# Altium footprint library mw.PcbLib: 252 footprints (part 7 of 16)
Each footprint in its own frame and in the unit in brackets; x right, y up, seen from the top. Pads: shape width x height; smd on the part's side, far side on the other; paste and mask are expansions set on the pad; w line width, h text height; cw(c..) or ccw(c..) is an arc to the next point about the centre after c.
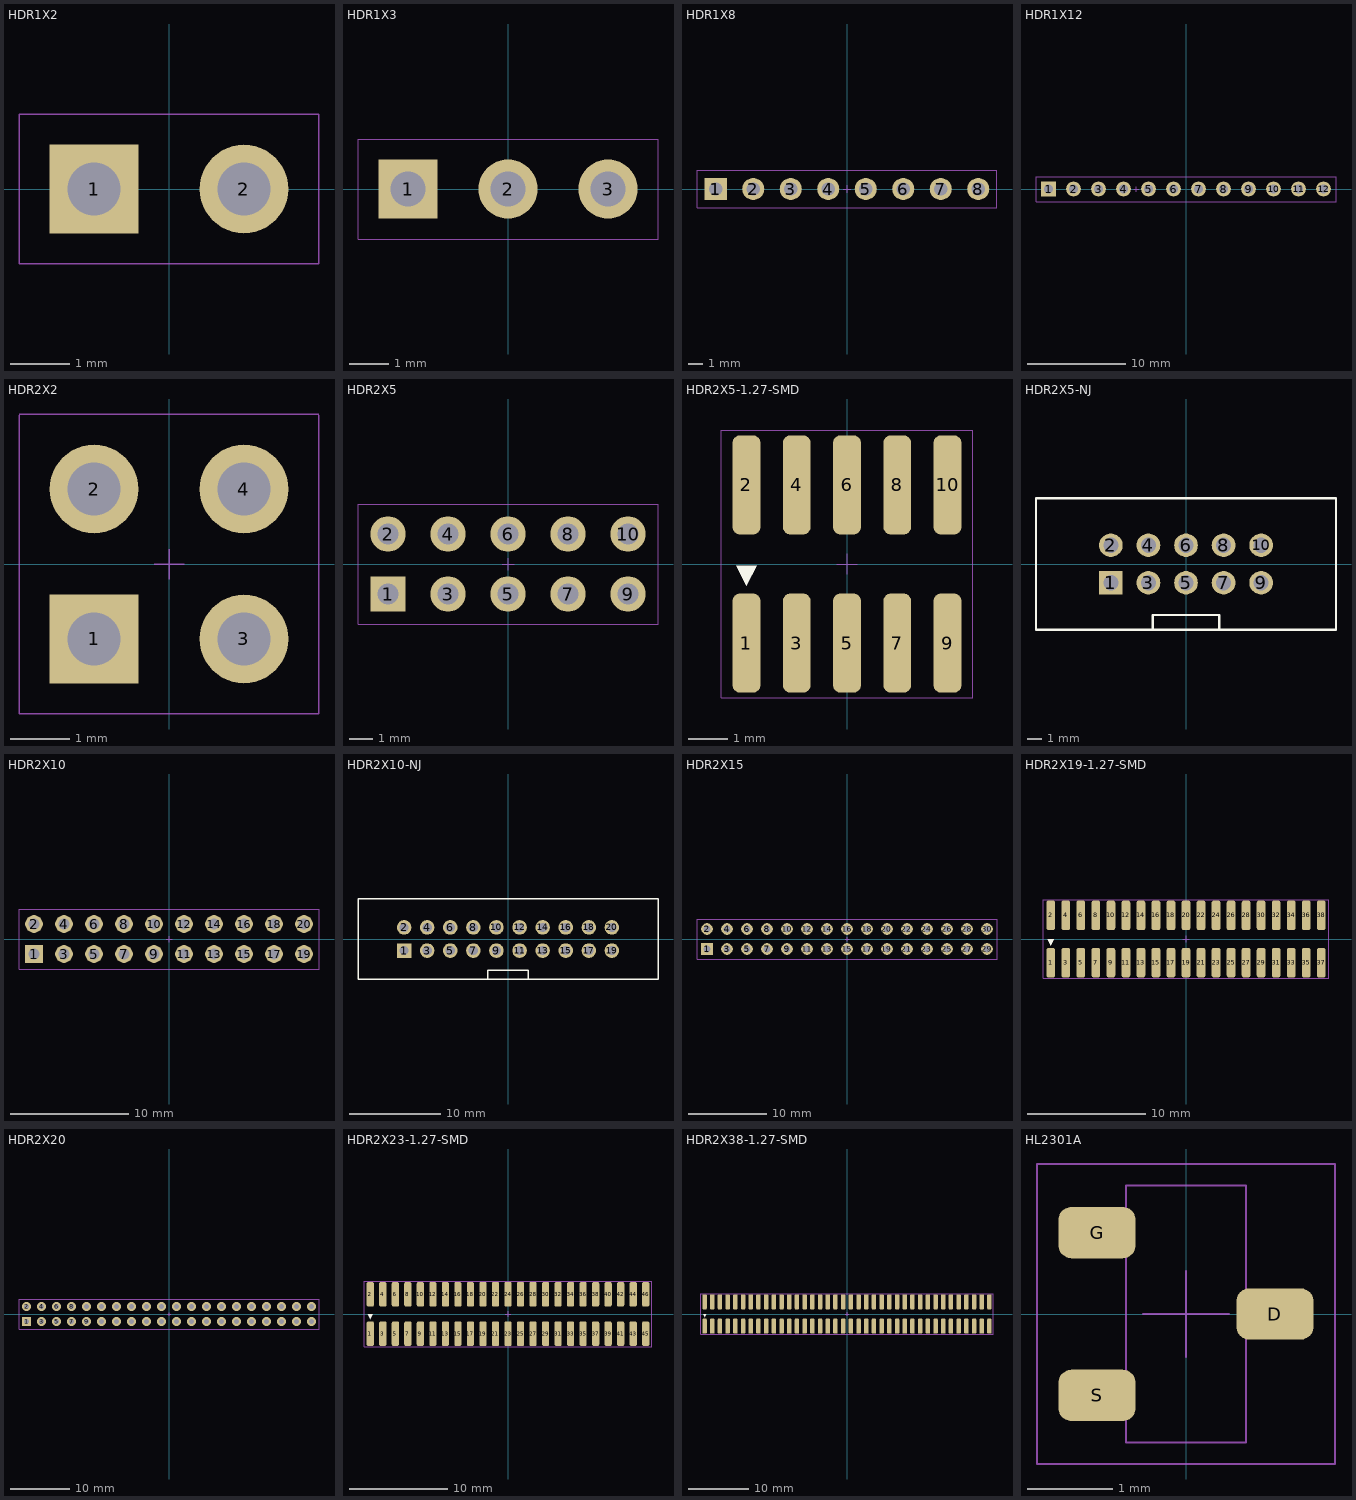
[diagram p6: the footprints below, top view; thin cyan lines are the x and y axes]

## HDR1X2 [mm] "Connector; Header; 5x2 Position"
pads (2):
  rect 1.5x1.5 hole 0.9: 1(-1.27,0)
  round 1.5 hole 0.9: 2(1.27,0)
Top Courtyard:
  lines w0.025: -1.524,0 -1.016,0 ; -1.27,-0.254 -1.27,0.254 ; -2.54,-1.27 -2.54,1.27 2.54,1.27 2.54,-1.27 -2.54,-1.27
3D body "header-2.54-1x2.step": height 9.3, standoff -2.2, extent -2.54,-1.25 2.54,1.25

## HDR1X3 [mm] "Connector; Header; 5x2 Position"
pads (3):
  rect 1.5x1.5 hole 0.9: 1(-2.54,0)
  round 1.5 hole 0.9: 2(0,0) 3(2.54,0)
Top Courtyard:
  lines w0.025: -0.254,0 0.254,0 ; 0,-0.254 0,0.254 ; -3.81,-1.27 3.81,-1.27 3.81,1.27 -3.81,1.27 -3.81,-1.27
3D body "header-2.54-1x3.step": height 9.3, standoff -2.2, extent -3.81,-1.25 3.81,1.25

## HDR1X8 [mm] "Connector; Header; 5x2 Position"
pads (8):
  rect 1.5x1.5 hole 0.9: 1(-8.89,0)
  round 1.5 hole 0.9: 2(-6.35,0) 3(-3.81,0) 4(-1.27,0) 5(1.27,0) 6(3.81,0) 7(6.35,0) 8(8.89,0)
Top Courtyard:
  lines w0.025: -0.254,0 0.254,0 ; 0,-0.254 0,0.254 ; -10.16,-1.27 -10.16,1.27 10.16,1.27 10.16,0.635 10.16,-0.635 10.16,-1.27 -10.16,-1.27
3D body "header-2.54-1x8.step": height 9.3, standoff -2.2, extent -10.16,-1.25 10.16,1.25

## HDR1X12 [mm] "Connector; Header; 5x2 Position"
pads (12):
  rect 1.5x1.5 hole 0.9: 1(-13.97,0)
  round 1.5 hole 0.9: 2(-11.43,0) 3(-8.89,0) 4(-6.35,0) 5(-3.81,0) 6(-1.27,0) 7(1.27,0) 8(3.81,0) 9(6.35,0) 10(8.89,0) 11(11.43,0) 12(13.97,0)
Top Courtyard:
  lines w0.025: -5.334,0 -4.826,0 ; -5.08,-0.254 -5.08,0.254 ; -15.24,-1.27 -15.24,1.27 15.24,1.27 15.24,-1.27 -15.24,-1.27
3D body "header-2.54-1x12.step": height 9.3, standoff -2.2, extent -15.24,-1.25 15.24,1.25

## HDR2X2 [mm] "Connector; Header"
pads (4):
  rect 1.5x1.5 hole 0.9: 1(-1.27,-1.27)
  round 1.5 hole 0.9: 2(-1.27,1.27) 3(1.27,-1.27) 4(1.27,1.27)
Top Courtyard:
  lines w0.025: -2.54,2.52 -2.54,-2.54 2.54,-2.54 2.54,2.52 ; -2.54,2.54 2.54,2.54 ; -0.254,0 0.254,0 ; 0,-0.254 0,0.254
3D body "header-2.54-2x2.step": height 9.3, standoff -2.2, extent -2.54,-2.54 2.54,2.54

## HDR2X5 [mm] "Connector; Header; 5x2 Position"
pads (10):
  rect 1.5x1.5 hole 0.9: 1(-5.08,-1.27)
  round 1.5 hole 0.9: 2(-5.08,1.27) 3(-2.54,-1.27) 4(-2.54,1.27) 5(0,-1.27) 6(0,1.27) 7(2.54,-1.27) 8(2.54,1.27) 9(5.08,-1.27) 10(5.08,1.27)
Top Courtyard:
  lines w0.025: -0.254,0 0.254,0 ; 0,-0.254 0,0.254 ; -6.35,-2.54 6.35,-2.54 6.35,2.54 -6.35,2.54 -6.35,-2.54
3D body "header-2.54-2x5.step": height 9.3, standoff -2.2, extent -6.35,-2.54 6.35,2.54

## HDR2X5-1.27-SMD [mm] "Connector; Header; 5x2 Position"
pads (10):
  rrect50% 0.7x2.5 smd: 1(-2.54,-2) 2(-2.54,2) 3(-1.27,-2) 4(-1.27,2) 5(0,-2) 6(0,2) 7(1.27,-2) 8(1.27,2) 9(2.54,-2) 10(2.54,2)
Top Overlay:
  region: -2.286,-0.042 -2.794,-0.042 -2.54,-0.55
Top Courtyard:
  lines w0.025: -0.254,0 0.254,0 ; 0,-0.254 0,0.254 ; -3.175,-3.375 -3.175,3.375 3.175,3.375 3.175,-3.375 -3.175,-3.375

## HDR2X5-NJ [mm]
pads (10):
  rect 1.6x1.6 hole 1.02: 1(-5.08,-1.27)
  round 1.6 hole 1.02: 2(-5.08,1.27) 3(-2.54,-1.27) 4(-2.54,1.27) 5(0,-1.27) 6(0,1.27) 7(2.54,-1.27) 8(2.54,1.27) 9(5.08,-1.27) 10(5.08,1.27)
Top Overlay:
  lines w0.152: -2.25,-4.45 -2.25,-3.45 2.25,-3.45 2.25,-4.45 ; -10.15,-4.45 10.15,-4.45 10.15,4.45 -10.15,4.45 -10.15,-4.45
3D body "jn-2.54-2x5.STEP": height 9, standoff -1.55, extent -10.15,-4.5 10.15,4.6

## HDR2X10 [mm] "Connector; Header;"
pads (20):
  rect 1.5x1.5 hole 0.9: 1(-11.43,-1.27)
  round 1.5 hole 0.9: 2(-11.43,1.27) 3(-8.89,-1.27) 4(-8.89,1.27) 5(-6.35,-1.27) 6(-6.35,1.27) 7(-3.81,-1.27) 8(-3.81,1.27) 9(-1.27,-1.27) 10(-1.27,1.27) 11(1.27,-1.27) 12(1.27,1.27) 13(3.81,-1.27) 14(3.81,1.27) 15(6.35,-1.27) 16(6.35,1.27) 17(8.89,-1.27) 18(8.89,1.27) 19(11.43,-1.27) 20(11.43,1.27)
Top Courtyard:
  lines w0.025: -0.254,0 0.254,0 ; 0,-0.254 0,0.254 ; -12.7,-2.54 -12.7,2.54 12.7,2.54 12.7,-2.54 -12.7,-2.54
3D body "header-2.54-2x10.step": height 9.3, standoff -2.2, extent -12.7,-2.535 12.7,2.545

## HDR2X10-NJ [mm]
pads (20):
  rect 1.6x1.6 hole 1.02: 1(-11.43,-1.27)
  round 1.6 hole 1.02: 2(-11.43,1.27) 3(-8.89,-1.27) 4(-8.89,1.27) 5(-6.35,-1.27) 6(-6.35,1.27) 7(-3.81,-1.27) 8(-3.81,1.27) 9(-1.27,-1.27) 10(-1.27,1.27) 11(1.27,-1.27) 12(1.27,1.27) 13(3.81,-1.27) 14(3.81,1.27) 15(6.35,-1.27) 16(6.35,1.27) 17(8.89,-1.27) 18(8.89,1.27) 19(11.43,-1.27) 20(11.43,1.27)
Top Overlay:
  lines w0.152: -2.25,-4.45 -2.25,-3.45 2.25,-3.45 2.25,-4.45 ; -16.5,-4.45 16.5,-4.45 16.5,4.45 -16.5,4.45 -16.5,-4.45
3D body "jn-2.54-2x10.STEP": height 9, standoff -1.55, extent -16.5,-4.45 16.5,4.65

## HDR2X15 [mm] "Connector; Header;"
pads (30):
  rect 1.5x1.5 hole 0.9: 1(-17.78,-1.27)
  round 1.5 hole 0.9: 2(-17.78,1.27) 3(-15.24,-1.27) 4(-15.24,1.27) 5(-12.7,-1.27) 6(-12.7,1.27) 7(-10.16,-1.27) 8(-10.16,1.27) 9(-7.62,-1.27) 10(-7.62,1.27) 11(-5.08,-1.27) 12(-5.08,1.27) 13(-2.54,-1.27) 14(-2.54,1.27) 15(0,-1.27) 16(0,1.27) 17(2.54,-1.27) 18(2.54,1.27) 19(5.08,-1.27) 20(5.08,1.27) 21(7.62,-1.27) 22(7.62,1.27) 23(10.16,-1.27) 24(10.16,1.27) 25(12.7,-1.27) 26(12.7,1.27) 27(15.24,-1.27) 28(15.24,1.27) 29(17.78,-1.27) 30(17.78,1.27)
Top Courtyard:
  lines w0.025: -19.05,2.538 19.05,2.54 19.05,-2.54 -19.05,-2.54 ; -0.254,0 0.254,0 ; 0,-0.254 0,0.254 ; -19.05,-2.54 -19.05,2.54 -19.05,-2.54
3D body "header-2.54-2x15.step": height 9.3, standoff -2.2, extent -19.05,-2.54 19.05,2.54

## HDR2X19-1.27-SMD [mm]
pads (38):
  rrect50% 0.74x2.5 smd: 1(-11.43,-2) 2(-11.43,2) 3(-10.16,-2) 4(-10.16,2) 5(-8.89,-2) 6(-8.89,2) 7(-7.62,-2) 8(-7.62,2) 9(-6.35,-2) 10(-6.35,2) 11(-5.08,-2) 12(-5.08,2) 13(-3.81,-2) 14(-3.81,2) 15(-2.54,-2) 16(-2.54,2) 17(-1.27,-2) 18(-1.27,2) 19(0,-2) 20(0,2) 21(1.27,-2) 22(1.27,2) 23(2.54,-2) 24(2.54,2) 25(3.81,-2) 26(3.81,2) 27(5.08,-2) 28(5.08,2) 29(6.35,-2) 30(6.35,2) 31(7.62,-2) 32(7.62,2) 33(8.89,-2) 34(8.89,2) 35(10.16,-2) 36(10.16,2) 37(11.43,-2) 38(11.43,2)
Top Overlay:
  region: -11.176,-0.042 -11.684,-0.042 -11.43,-0.55
Top Courtyard:
  lines w0.025: -0.254,0 0.254,0 ; 0,-0.254 0,0.254 ; -12.065,-3.302 12.065,-3.302 12.065,3.302 -12.065,3.302 -12.065,-3.302
3D body "header-1.27-2x19.STEP": height 3.71, standoff 0, extent -12.065,-2.415 12.065,2.415

## HDR2X20 [mm] "Connector; Header;"
pads (40):
  rect 1.5x1.5 hole 0.9: 1(-24.13,-1.27)
  round 1.5 hole 0.9: 2(-24.13,1.27) 3(-21.59,-1.27) 4(-21.59,1.27) 5(-19.05,-1.27) 6(-19.05,1.27) 7(-16.51,-1.27) 8(-16.51,1.27) 9(-13.97,-1.27) 10(-13.97,1.27) 11(-11.43,-1.27) 12(-11.43,1.27) 13(-8.89,-1.27) 14(-8.89,1.27) 15(-6.35,-1.27) 16(-6.35,1.27) 17(-3.81,-1.27) 18(-3.81,1.27) 19(-1.27,-1.27) 20(-1.27,1.27) 21(1.27,-1.27) 22(1.27,1.27) 23(3.81,-1.27) 24(3.81,1.27) 25(6.35,-1.27) 26(6.35,1.27) 27(8.89,-1.27) 28(8.89,1.27) 29(11.43,-1.27) 30(11.43,1.27) 31(13.97,-1.27) 32(13.97,1.27) 33(16.51,-1.27) 34(16.51,1.27) 35(19.05,-1.27) 36(19.05,1.27) 37(21.59,-1.27) 38(21.59,1.27) 39(24.13,-1.27) 40(24.13,1.27)
Top Courtyard:
  lines w0.025: -0.254,0 0.254,0 ; 0,-0.254 0,0.254 ; -25.4,-2.54 25.4,-2.54 25.4,2.54 -25.4,2.54 -25.4,-2.54
3D body "header-2.54-2x20.step": height 9.3, standoff -2.2, extent -25.4,-2.54 25.4,2.54

## HDR2X23-1.27-SMD [mm]
pads (46):
  rrect50% 0.74x2.5 smd: 1(-13.97,-2) 2(-13.97,2) 3(-12.7,-2) 4(-12.7,2) 5(-11.43,-2) 6(-11.43,2) 7(-10.16,-2) 8(-10.16,2) 9(-8.89,-2) 10(-8.89,2) 11(-7.62,-2) 12(-7.62,2) 13(-6.35,-2) 14(-6.35,2) 15(-5.08,-2) 16(-5.08,2) 17(-3.81,-2) 18(-3.81,2) 19(-2.54,-2) 20(-2.54,2) 21(-1.27,-2) 22(-1.27,2) 23(0,-2) 24(0,2) 25(1.27,-2) 26(1.27,2) 27(2.54,-2) 28(2.54,2) 29(3.81,-2) 30(3.81,2) 31(5.08,-2) 32(5.08,2) 33(6.35,-2) 34(6.35,2) 35(7.62,-2) 36(7.62,2) 37(8.89,-2) 38(8.89,2) 39(10.16,-2) 40(10.16,2) 41(11.43,-2) 42(11.43,2) 43(12.7,-2) 44(12.7,2) 45(13.97,-2) 46(13.97,2)
Top Overlay:
  region: -13.716,-0.042 -14.224,-0.042 -13.97,-0.55
Top Courtyard:
  lines w0.025: -0.254,0 0.254,0 ; 0,-0.254 0,0.254 ; -14.605,-3.302 -14.605,3.302 14.605,3.302 14.605,-3.302 -14.605,-3.302
3D body "header-1.27-2x23.STEP": height 3.71, standoff 0, extent -14.605,-2.415 14.605,2.415

## HDR2X38-1.27-SMD [mm]
pads (76):
  rrect50% 0.74x2.5 smd: 1(-23.495,-2) 2(-23.495,2) 3(-22.225,-2) 4(-22.225,2) 5(-20.955,-2) 6(-20.955,2) 7(-19.685,-2) 8(-19.685,2) 9(-18.415,-2) 10(-18.415,2) 11(-17.145,-2) 12(-17.145,2) 13(-15.875,-2) 14(-15.875,2) 15(-14.605,-2) 16(-14.605,2) 17(-13.335,-2) 18(-13.335,2) 19(-12.065,-2) 20(-12.065,2) 21(-10.795,-2) 22(-10.795,2) 23(-9.525,-2) 24(-9.525,2) 25(-8.255,-2) 26(-8.255,2) 27(-6.985,-2) 28(-6.985,2) 29(-5.715,-2) 30(-5.715,2) 31(-4.445,-2) 32(-4.445,2) 33(-3.175,-2) 34(-3.175,2) 35(-1.905,-2) 36(-1.905,2) 37(-0.635,-2) 38(-0.635,2) 39(0.635,-2) 40(0.635,2) 41(1.905,-2) 42(1.905,2) 43(3.175,-2) 44(3.175,2) 45(4.445,-2) 46(4.445,2) 47(5.715,-2) 48(5.715,2) 49(6.985,-2) 50(6.985,2) 51(8.255,-2) 52(8.255,2) 53(9.525,-2) 54(9.525,2) 55(10.795,-2) 56(10.795,2) 57(12.065,-2) 58(12.065,2) 59(13.335,-2) 60(13.335,2) 61(14.605,-2) 62(14.605,2) 63(15.875,-2) 64(15.875,2) 65(17.145,-2) 66(17.145,2) 67(18.415,-2) 68(18.415,2) 69(19.685,-2) 70(19.685,2) 71(20.955,-2) 72(20.955,2) 73(22.225,-2) 74(22.225,2) 75(23.495,-2) 76(23.495,2)
Top Overlay:
  region: -23.241,-0.042 -23.749,-0.042 -23.495,-0.55
Top Courtyard:
  lines w0.025: -0.254,0 0.254,0 ; 0,-0.254 0,0.254 ; -24.13,-3.302 -24.13,3.302 24.13,3.302 24.13,-3.302 -24.13,-3.302
3D body "header-1.27-2x38.STEP": height 3.71, standoff 0, extent -24.13,-2.415 24.13,2.415

## HL2301A [mm] "SOT23, 3-Leads, Body 2.90x2.40mm, Pitch 0.95mm, IPC Medium Density"
height 1
pads (3):
  rrect50% 0.9x0.6 smd: D(1.037,0) G(-1.038,0.95) S(-1.038,-0.95)
Top 3D Body (Mech13):
  lines w0.025: -0.7,-1.5 -0.7,1.5 0.7,1.5 0.7,-1.5 -0.7,-1.5
Top Courtyard:
  lines w0.025: -0.5,0 0.5,0 ; 0,-0.5 0,0.5 ; -1.738,-1.75 1.737,-1.75 1.737,1.75 -1.738,1.75 -1.738,-1.75
3D body "HL2301A.step": height 1, standoff 0, extent -1.275,-1.45 1.275,1.45